# Altium footprint library Myfootprints.PcbLib: 1 footprints
Each footprint in its own frame and in the unit in brackets; x right, y up, seen from the top. Pads: shape width x height; smd on the part's side, far side on the other; paste and mask are expansions set on the pad; w line width, h text height; cw(c..) or ccw(c..) is an arc to the next point about the centre after c.
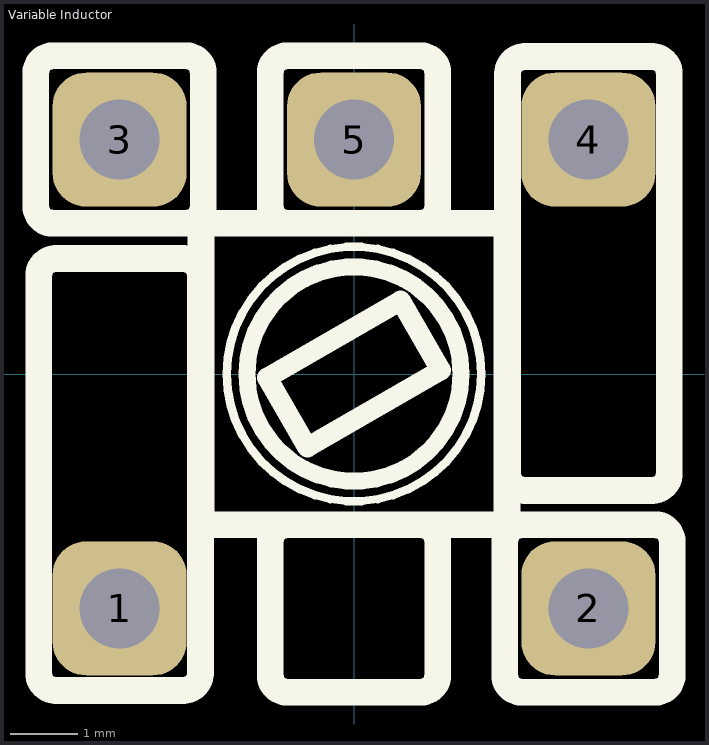
[diagram p0: the footprint, top view; thin cyan lines are the x and y axes]

## Variable Inductor [mm]
pads (5):
  rrect50% 2x2 hole 1.2: 1(-3.5,-3.5) 2(3.5,-3.5) 3(-3.5,3.5) 4(3.5,3.5) 5(0,3.5)
Top Overlay:
  circle w0.127: c0,0 r1.9
  circle w0.254: c0,0 r1.6
  lines w0.3: -1.296,-0.055 0.696,1.095 1.296,0.055 -0.696,-1.095 -1.296,-0.055
  lines w0.4: -4.75,2.504 ccw(c-4.496,2.504) -4.496,2.25 -2.504,2.25 ccw(c-2.504,2.504) -2.25,2.504 -2.25,4.496 ccw(c-2.504,4.496) -2.504,4.75 -4.496,4.75 ccw(c-4.496,4.496) -4.75,4.496 -4.75,2.504 ; -4.707,-4.469 ccw(c-4.453,-4.469) -4.453,-4.723 -2.548,-4.723 ccw(c-2.548,-4.469) -2.294,-4.469 -2.294,1.47 ccw(c-2.548,1.47) -2.548,1.724 -4.453,1.724 ccw(c-4.453,1.47) -4.707,1.47 -4.707,-4.469 ; -2.286,-2.25 2.286,-2.25 2.286,2.25 -2.286,2.25 -2.286,-2.25 ; -1.25,-4.496 ccw(c-0.996,-4.496) -0.996,-4.75 0.996,-4.75 ccw(c0.996,-4.496) 1.25,-4.496 1.25,-2.504 ccw(c0.996,-2.504) 0.996,-2.25 -0.996,-2.25 ccw(c-0.996,-2.504) -1.25,-2.504 -1.25,-4.496 ; -1.25,2.504 ccw(c-0.996,2.504) -0.996,2.25 0.996,2.25 ccw(c0.996,2.504) 1.25,2.504 1.25,4.496 ccw(c0.996,4.496) 0.996,4.75 -0.996,4.75 ccw(c-0.996,4.496) -1.25,4.496 -1.25,2.504 ; 2.25,-4.496 ccw(c2.504,-4.496) 2.504,-4.75 4.496,-4.75 ccw(c4.496,-4.496) 4.75,-4.496 4.75,-2.504 ccw(c4.496,-2.504) 4.496,-2.25 2.504,-2.25 ccw(c2.504,-2.504) 2.25,-2.504 2.25,-4.496 ; 2.294,-1.485 ccw(c2.548,-1.485) 2.548,-1.739 4.453,-1.739 ccw(c4.453,-1.485) 4.707,-1.485 4.707,4.484 ccw(c4.453,4.484) 4.453,4.738 2.548,4.738 ccw(c2.548,4.484) 2.294,4.484 2.294,-1.485